# Altium integrated library STMicroelectronics STM32 F4.IntLib: 139 symbols (part 12 of 29)
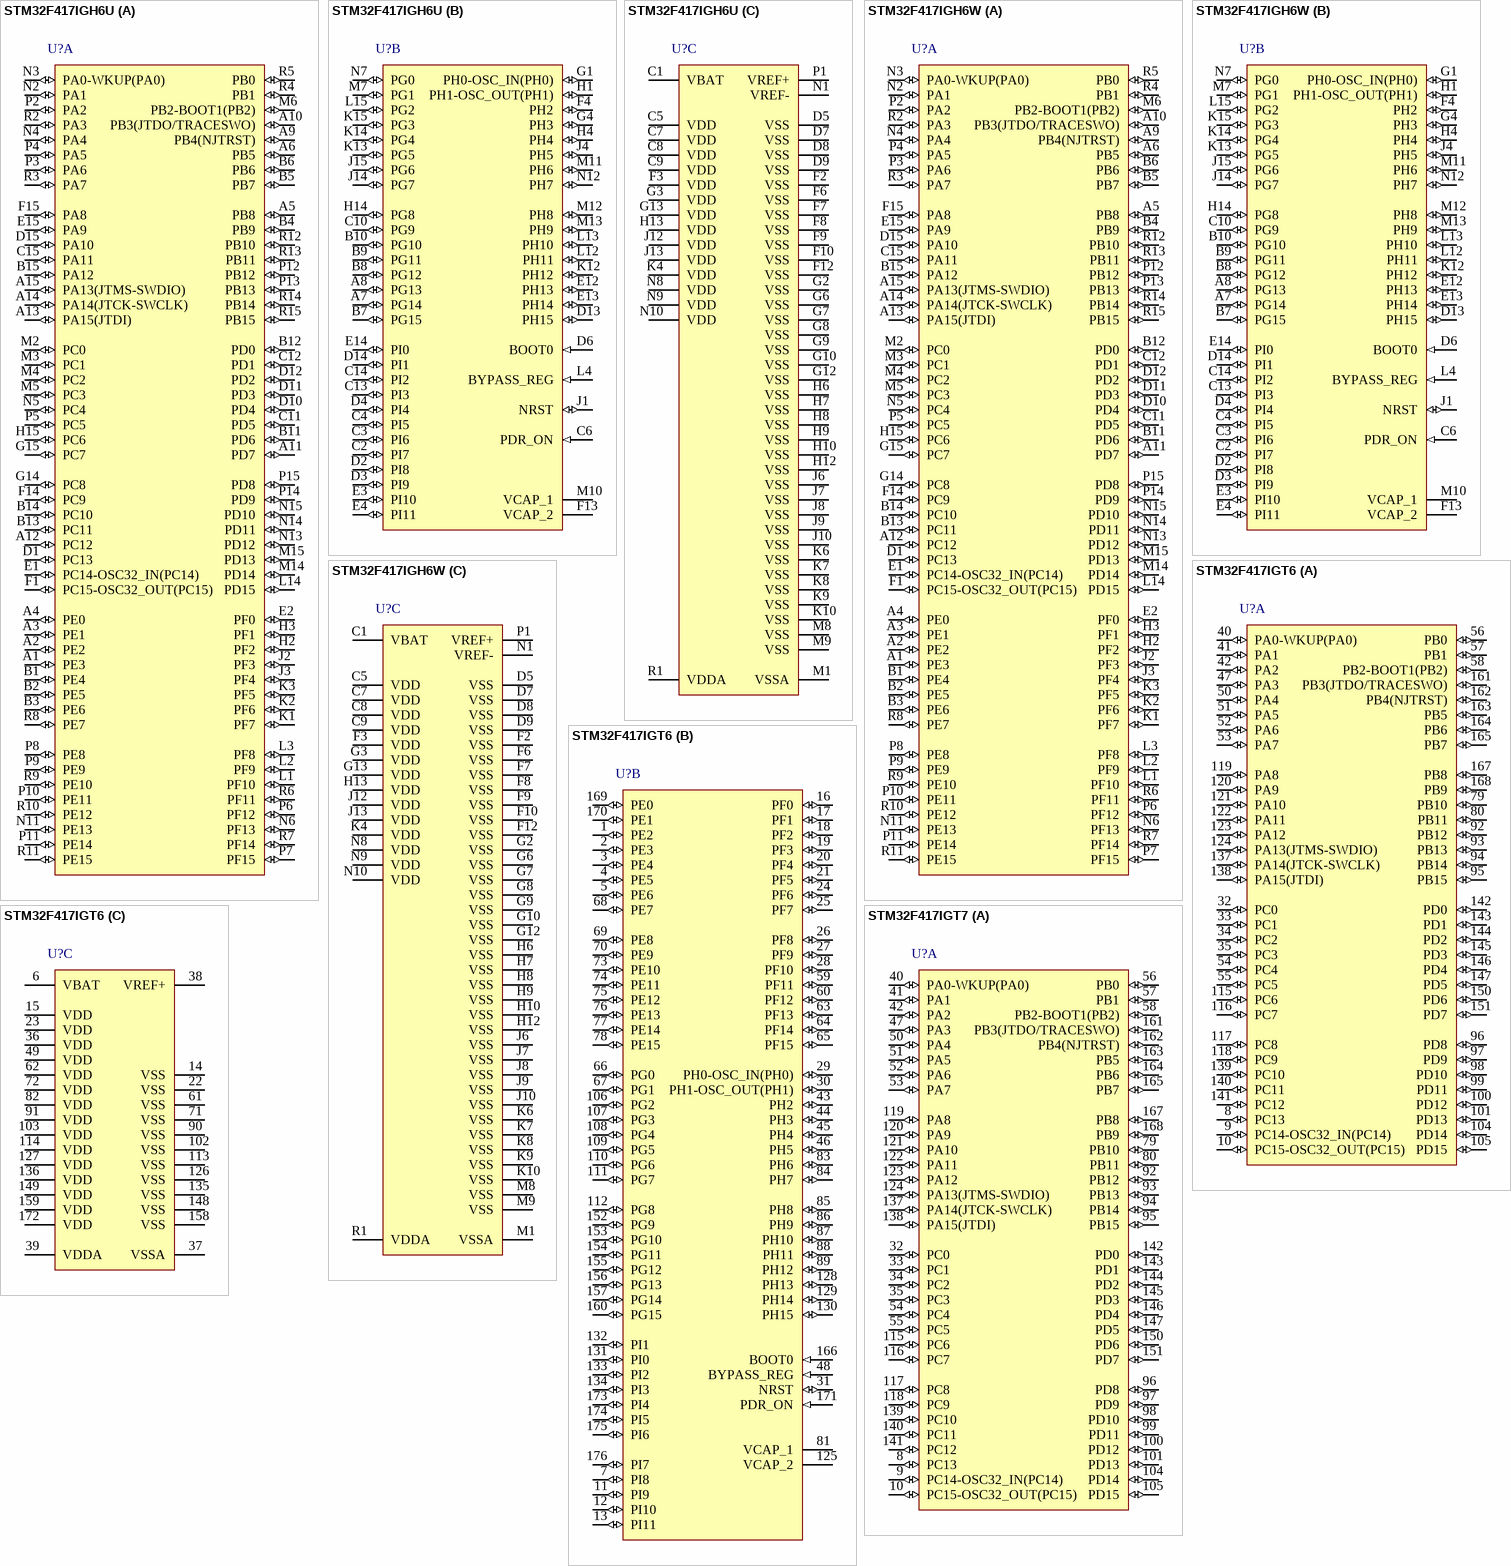
[diagram p50: symbols STM32F417IGH6U to STM32F417IGT7]

## STM32F417IGH6U
designator U?
ARM Cortex-M4 32-bit MCU+FPU, 210 DMIPS, 1024 kB Flash, 192 kB Internal RAM, 140 I/Os, 176-pin BGA, -40 to 85 degC; Manufacturer: STMicroelectronics; PartNumber: STM32F417IGH6U; D/A Converter: 2x12-bit; FLASH Size (Prog) (kB): 1024; I/Os (High Current): 140; Internal RAM Size (kB): 192; Operating Frequency(F) (Processor speed) (MHz): 168; Supply Voltage(Vcc) max (V): 3.6; Supply Voltage(Vcc) min (V): 1.8; DatasheetVersion: Rev. 4; PackageVersion: Rev. 4, 06/2013; PackageReference: UFBGA176+25; PackageDescription: 176+25-Ball Ultra Thin Fine Pitch Ball Grid Array, 10 x 10 x 0.6 mm Body, 0.65 mm Pitch; Supplier 1: Mouser; Supplier Part Number 1: N/A; Core: ARM Cortex-M4; Mounting Technology: Surface Mount; ComponentLink1Description: Manufacturer URL; ComponentLink1URL: http://www.st.com/web/en/home.html; ComponentLink2Description: Datasheet; ComponentLink2URL: http://www.st.com/st-web-ui/static/active/en/resource/technical/document/datasheet/DM00035129.pdf; ComponentLink3Description: Package Specification; ComponentLink3URL: http://www.st.com/st-web-ui/static/active/en/resource/technical/document/datasheet/DM00037051.pdf
footprint STM-UFBGA176+25 (BGA, 201-Balls, Body 10x10mm, Pitch 0.65mm)
part A pins: A1 PE3 (io) "PE3/TRACED0/FSMC_A19/EVENTOUT", A2 PE2 (io) "PE2/TRACECLK/FSMC_A23/ETH_MII_TXD3/EVENTOUT", A3 PE1 (io) "PE1/FSMC_NBL1/DCMI_D3/EVENTOUT", A4 PE0 (io) "PE0/TIM4_ETR/FSMC_NBL0/DCMI_D2/EVENTOUT", A5 PB8 (io) "PB8/TIM4_CH3/SDIO_D4/TIM10_CH1/DCMI_D6/ETH_MII_TXD3/I2C1_SCL/CAN1_RX/EVENTOUT", A6 PB5 (io) "PB5/I2C1_SMBA/CAN2_RX/OTG_HS_ULPI_D7/ETH_PPS_OUT/TIM3_CH2/SPI1_MOSI/SPI3_MOSI/DCMI_D10/I2S3_SD/EVENTOUT", A9 PB4(NJTRST) (io) "PB4(NJTRST)/NJTRST/SPI3_MISO/TIM3_CH1/SPI1_MISO/I2S3ext_SD/EVENTOUT", A10 PB3(JTDO/TRACESWO) (io) "PB3(JTDO/TRACESWO)/JTDO/TRACESWO/SPI3_SCK/I2S3_CK/TIM2_CH2/SPI1_SCK/EVENTOUT", A11 PD7 (io) "PD7/USART2_CK/FSMC_NE1/FSMC_NCE2/EVENTOUT", A12 PC12 (io) "PC12/UART5_TX/SDIO_CK/DCMI_D9/SPI3_MOSI/I2S3_SD/USART3_CK/EVENTOUT", A13 PA15(JTDI) (io) "PA15(JTDI)/JTDI/SPI3_NSS/I2S3_WS/TIM2_CH1_ETR/SPI1_NSS/EVENTOUT", A14 PA14(JTCK-SWCLK) (io) "PA14(JTCK-SWCLK)/JTCK-SWCLK/EVENTOUT", A15 PA13(JTMS-SWDIO) (io) "PA13(JTMS-SWDIO)/JTMS-SWDIO/EVENTOUT", B1 PE4 (io) "PE4/TRACED1/FSMC_A20/DCMI_D4/EVENTOUT", B2 PE5 (io) "PE5/TRACED2/FSMC_A21/TIM9_CH1/DCMI_D6/EVENTOUT", B3 PE6 (io) "PE6/TRACED3/FSMC_A22/TIM9_CH2/DCMI_D7/EVENTOUT", B4 PB9 (io) "PB9/SPI2_NSS/I2S2_WS/TIM4_CH4/TIM11_CH1/SDIO_D5/DCMI_D7/I2C1_SDA/CAN1_TX/EVENTOUT", B5 PB7 (io) "PB7/I2C1_SDA/FSMC_NL/DCMI_VSYNC/USART1_RX/TIM4_CH2/EVENTOUT", B6 PB6 (io) "PB6/I2C1_SCL/TIM4_CH1/CAN2_TX/DCMI_D5/USART1_TX/EVENTOUT", B11 PD6 (io) "PD6/FSMC_NWAIT/USART2_RX/EVENTOUT", B12 PD0 (io) "PD0/FSMC_D2/CAN1_RX/EVENTOUT", B13 PC11 (io) "PC11/UART4_RX/SPI3_MISO/SDIO_D3/DCMI_D4/USART3_RX/I2S3ext_SD/EVENTOUT", B14 PC10 (io) "PC10/SPI3_SCK/I2S3_CK/UART4_TX/SDIO_D2/DCMI_D8/USART3_TX/EVENTOUT", B15 PA12 (io) "PA12/USART1_RTS/CAN1_TX/TIM1_ETR/OTG_FS_DP/EVENTOUT", C11 PD5 (io) "PD5/FSMC_NWE/USART2_TX/EVENTOUT", C12 PD1 (io) "PD1/FSMC_D3/CAN1_TX/EVENTOUT", C15 PA11 (io) "PA11/USART1_CTS/CAN1_RX/TIM1_CH4/OTG_FS_DM/EVENTOUT", D1 PC13 (io) "PC13/EVENTOUT/RTC_OUT,RTC_TAMP1,RTC_TS", D10 PD4 (io) "PD4/FSMC_NOE/USART2_RTS/EVENTOUT", D11 PD3 (io) "PD3/FSMC_CLK/USART2_CTS/EVENTOUT", D12 PD2 (io) "PD2/TIM3_ETR/UART5_RX/SDIO_CMD/DCMI_D11/EVENTOUT", D15 PA10 (io) "PA10/USART1_RX/TIM1_CH3/OTG_FS_ID/DCMI_D1/EVENTOUT", E1 PC14-OSC32_IN(PC14) (io) "PC14-OSC32_IN(PC14)/EVENTOUT/OSC32_IN", E2 PF0 (io) "PF0/FSMC_A0/I2C2_SDA/EVENTOUT", E15 PA9 (io) "PA9/USART1_TX/TIM1_CH2/I2C3_SMBA/DCMI_D0/EVENTOUT/OTG_FS_VBUS", F1 PC15-OSC32_OUT(PC15) (io) "PC15-OSC32_OUT(PC15)/EVENTOUT/OSC32_OUT", F14 PC9 (io) "PC9/I2S_CKIN/MCO2/TIM8_CH4/SDIO_D1/I2C3_SDA/DCMI_D3/TIM3_CH4/EVENTOUT", F15 PA8 (io) "PA8/MCO1/USART1_CK/TIM1_CH1/I2C3_SCL/OTG_FS_SOF/EVENTOUT", G14 PC8 (io) "PC8/TIM8_CH3/SDIO_D0/TIM3_CH3/USART6_CK/DCMI_D2/EVENTOUT", G15 PC7 (io) "PC7/I2S3_MCK/TIM8_CH2/SDIO_D7/USART6_RX/DCMI_D1/TIM3_CH2/EVENTOUT", H2 PF2 (io) "PF2/FSMC_A2/I2C2_SMBA/EVENTOUT", H3 PF1 (io) "PF1/FSMC_A1/I2C2_SCL/EVENTOUT", H15 PC6 (io) "PC6/I2S2_MCK/TIM8_CH1/SDIO_D6/USART6_TX/DCMI_D0/TIM3_CH1/EVENTOUT", J2 PF3 (io) "PF3/FSMC_A3/EVENTOUT/ADC3_IN9", J3 PF4 (io) "PF4/FSMC_A4/EVENTOUT/ADC3_IN14", K1 PF7 (io) "PF7/TIM11_CH1/FSMC_NREG/EVENTOUT/ADC3_IN5", K2 PF6 (io) "PF6/TIM10_CH1/FSMC_NIORD/EVENTOUT/ADC3_IN4", K3 PF5 (io) "PF5/FSMC_A5/EVENTOUT/ADC3_IN15", L1 PF10 (io) "PF10/FSMC_INTR/EVENTOUT/ADC3_IN8", L2 PF9 (io) "PF9/TIM14_CH1/FSMC_CD/EVENTOUT/ADC3_IN7", L3 PF8 (io) "PF8/TIM13_CH1/FSMC_NIOWR/EVENTOUT/ADC3_IN6", L14 PD15 (io) "PD15/FSMC_D1/TIM4_CH4/EVENTOUT", M2 PC0 (io) "PC0/OTG_HS_ULPI_STP/EVENTOUT/ADC123_IN10", M3 PC1 (io) "PC1/ETH_MDC/EVENTOUT/ADC123_IN11", M4 PC2 (io) "PC2/SPI2_MISO/OTG_HS_ULPI_DIR/ETH_MII_TXD2/I2S2ext_SD/EVENTOUT/ADC123_IN12", M5 PC3 (io) "PC3/SPI2_MOSI/I2S2_SD/OTG_HS_ULPI_NXT/ETH_MII_TX_CLK/EVENTOUT/ADC123_IN13", M6 PB2-BOOT1(PB2) (io) "PB2-BOOT1(PB2)/EVENTOUT", M14 PD14 (io) "PD14/FSMC_D0/TIM4_CH3/EVENTOUT", M15 PD13 (io) "PD13/FSMC_A18/TIM4_CH2/EVENTOUT", N2 PA1 (io) "PA1/USART2_RTS/UART4_RX/ETH_RMII_REF_CLK/ETH_MII_RX_CLK/TIM5_CH2/TIM2_CH2/EVENTOUT/ADC123_IN1", N3 PA0-WKUP(PA0) (io) "PA0-WKUP(PA0)/USART2_CTS/UART4_TX/ETH_MII_CRS/TIM2_CH1_ETR/TIM5_CH1/TIM8_ETR/EVENTOUT/ADC123_IN0/WKUP", N4 PA4 (io) "PA4/SPI1_NSS/SPI3_NSS/USART2_CK/DCMI_HSYNC/OTG_HS_SOF/I2S3_WS/EVENTOUT/ADC12_IN4/DAC_OUT1", N5 PC4 (io) "PC4/ETH_RMII_RX_D0/ETH_MII_RX_D0/EVENTOUT/ADC12_IN14", N6 PF13 (io) "PF13/FSMC_A7/EVENTOUT", N11 PE13 (io) "PE13/FSMC_D10/TIM1_CH3/EVENTOUT", N13 PD12 (io) "PD12/FSMC_ALE/FSMC_A17/TIM4_CH1/USART3_RTS/EVENTOUT", N14 PD11 (io) "PD11/FSMC_CLE/FSMC_A16/USART3_CTS/EVENTOUT", N15 PD10 (io) "PD10/FSMC_D15/USART3_CK/EVENTOUT", P2 PA2 (io) "PA2/USART2_TX/TIM5_CH3/TIM9_CH1/TIM2_CH3/ETH_MDIO/EVENTOUT/ADC123_IN2", P3 PA6 (io) "PA6/SPI1_MISO/TIM8_BKIN/TIM13_CH1/DCMI_PIXCLK/TIM3_CH1/TIM1_BKIN/EVENTOUT/ADC12_IN6", P4 PA5 (io) "PA5/SPI1_SCK/OTG_HS_ULPI_CK/TIM2_CH1_ETR/TIM8_CH1N/EVENTOUT/ADC12_IN5/DAC_OUT2", P5 PC5 (io) "PC5/ETH_RMII_RX_D1/ETH_MII_RX_D1/EVENTOUT/ADC12_IN15", P6 PF12 (io) "PF12/FSMC_A6/EVENTOUT", P7 PF15 (io) "PF15/FSMC_A9/EVENTOUT", P8 PE8 (io) "PE8/FSMC_D5/TIM1_CH1N/EVENTOUT", P9 PE9 (io) "PE9/FSMC_D6/TIM1_CH1/EVENTOUT", P10 PE11 (io) "PE11/FSMC_D8/TIM1_CH2/EVENTOUT", P11 PE14 (io) "PE14/FSMC_D11/TIM1_CH4/EVENTOUT", P12 PB12 (io) "PB12/SPI2_NSS/I2S2_WS/I2C2_SMBA/USART3_CK/TIM1_BKIN/CAN2_RX/OTG_HS_ULPI_D5/ETH_RMII_TXD0/ETH_MII_TXD0/OTG_HS_ID/EVENTOUT", P13 PB13 (io) "PB13/SPI2_SCK/I2S2_CK/USART3_CTS/TIM1_CH1N/CAN2_TX/OTG_HS_ULPI_D6/ETH_RMII_TXD1/ETH_MII_TXD1/EVENTOUT/OTG_HS_VBUS", P14 PD9 (io) "PD9/FSMC_D14/USART3_RX/EVENTOUT", P15 PD8 (io) "PD8/FSMC_D13/USART3_TX/EVENTOUT", R2 PA3 (io) "PA3/USART2_RX/TIM5_CH4/TIM9_CH2/TIM2_CH4/OTG_HS_ULPI_D0/ETH_MII_COL/EVENTOUT/ADC123_IN3", R3 PA7 (io) "PA7/SPI1_MOSI/TIM8_CH1N/TIM14_CH1/TIM3_CH2/ETH_MII_RX_DV/TIM1_CH1N/ETH_RMII_CRS_DV/EVENTOUT/ADC12_IN7", R4 PB1 (io) "PB1/TIM3_CH4/TIM8_CH3N/OTG_HS_ULPI_D2/ETH_MII_RXD3/TIM1_CH3N/EVENTOUT/ADC12_IN9", R5 PB0 (io) "PB0/TIM3_CH3/TIM8_CH2N/OTG_HS_ULPI_D1/ETH_MII_RXD2/TIM1_CH2N/EVENTOUT/ADC12_IN8", R6 PF11 (io) "PF11/DCMI_D12/EVENTOUT", R7 PF14 (io) "PF14/FSMC_A8/EVENTOUT", R8 PE7 (io) "PE7/FSMC_D4/TIM1_ETR/EVENTOUT", R9 PE10 (io) "PE10/FSMC_D7/TIM1_CH2N/EVENTOUT", R10 PE12 (io) "PE12/FSMC_D9/TIM1_CH3N/EVENTOUT", R11 PE15 (io) "PE15/FSMC_D12/TIM1_BKIN/EVENTOUT", R12 PB10 (io) "PB10/SPI2_SCK/I2S2_CK/I2C2_SCL/USART3_TX/OTG_HS_ULPI_D3/ETH_MII_RX_ER/TIM2_CH3/EVENTOUT", R13 PB11 (io) "PB11/I2C2_SDA/USART3_RX/OTG_HS_ULPI_D4/ETH_RMII_TX_EN/ETH_MII_TX_EN/TIM2_CH4/EVENTOUT", R14 PB14 (io) "PB14/SPI2_MISO/TIM1_CH2N/TIM12_CH1/OTG_HS_DM/USART3_RTS/TIM8_CH2N/I2S2ext_SD/EVENTOUT", R15 PB15 (io) "PB15/SPI2_MOSI/I2S2_SD/TIM1_CH3N/TIM8_CH3N/TIM12_CH2/OTG_HS_DP/EVENTOUT/RTC_REFIN"
part B pins: A7 PG14 (io) "PG14/FSMC_A25/USART6_TX/ETH_MII_TXD1/ETH_RMII_TXD1/EVENTOUT", A8 PG13 (io) "PG13/FSMC_A24/USART6_CTS/ETH_MII_TXD0/ETH_RMII_TXD0/EVENTOUT", B7 PG15 (io) "PG15/USART6_CTS/DCMI_D13/EVENTOUT", B8 PG12 (io) "PG12/FSMC_NE4/USART6_RTS/EVENTOUT", B9 PG11 (io) "PG11/FSMC_NCE4_2/ETH_MII_TX_EN/ETH_RMII_TX_EN/EVENTOUT", B10 PG10 (io) "PG10/FSMC_NCE4_1/FSMC_NE3/EVENTOUT", C2 PI7 (io) "PI7/TIM8_CH3/DCMI_D7/EVENTOUT", C3 PI6 (io) "PI6/TIM8_CH2/DCMI_D6/EVENTOUT", C4 PI5 (io) "PI5/TIM8_CH1/DCMI_VSYNC/EVENTOUT", C6 PDR_ON (in), C10 PG9 (io) "PG9/USART6_RX/FSMC_NE2/FSMC_NCE3/EVENTOUT", C13 PI3 (io) "PI3/TIM8_ETR/SPI2_MOSI/I2S2_SD/DCMI_D10/EVENTOUT", C14 PI2 (io) "PI2/TIM8_CH4/SPI2_MISO/DCMI_D9/I2S2ext_SD/EVENTOUT", D2 PI8 (io) "PI8/EVENTOUT/RTC_TAMP1,RTC_TAMP2,RTC_TS", D3 PI9 (io) "PI9/CAN1_RX/EVENTOUT", D4 PI4 (io) "PI4/TIM8_BKIN/DCMI_D5/EVENTOUT", D6 BOOT0 (in) "BOOT0/VPP", D13 PH15 (io) "PH15/TIM8_CH3N/DCMI_D11/EVENTOUT", D14 PI1 (io) "PI1/SPI2_SCK/I2S2_CK/DCMI_D8/EVENTOUT", E3 PI10 (io) "PI10/ETH_MII_RX_ER/EVENTOUT", E4 PI11 (io) "PI11/OTG_HS_ULPI_DIR/EVENTOUT", E12 PH13 (io) "PH13/TIM8_CH1N/CAN1_TX/EVENTOUT", E13 PH14 (io) "PH14/TIM8_CH2N/DCMI_D4/EVENTOUT", E14 PI0 (io) "PI0/TIM5_CH4/SPI2_NSS/I2S2_WS/DCMI_D13/EVENTOUT", F4 PH2 (io) "PH2/ETH_MII_CRS/EVENTOUT", F13 VCAP_2 (power), G1 PH0-OSC_IN(PH0) (io) "PH0-OSC_IN(PH0)/EVENTOUT/OSC_IN", G4 PH3 (io) "PH3/ETH_MII_COL/EVENTOUT", H1 PH1-OSC_OUT(PH1) (io) "PH1-OSC_OUT(PH1)/EVENTOUT/OSC_OUT", H4 PH4 (io) "PH4/I2C2_SCL/OTG_HS_ULPI_NXT/EVENTOUT", H14 PG8 (io) "PG8/USART6_RTS/ETH_PPS_OUT/EVENTOUT", J1 NRST (io), J4 PH5 (io) "PH5/I2C2_SDA/EVENTOUT", J14 PG7 (io) "PG7/FSMC_INT3/USART6_CK/EVENTOUT", J15 PG6 (io) "PG6/FSMC_INT2/EVENTOUT", K12 PH12 (io) "PH12/TIM5_CH3/DCMI_D3/EVENTOUT", K13 PG5 (io) "PG5/FSMC_A15/EVENTOUT", K14 PG4 (io) "PG4/FSMC_A14/EVENTOUT", K15 PG3 (io) "PG3/FSMC_A13/EVENTOUT", L4 BYPASS_REG (in), L12 PH11 (io) "PH11/TIM5_CH2/DCMI_D2/EVENTOUT", L13 PH10 (io) "PH10/TIM5_CH1/DCMI_D1/EVENTOUT", L15 PG2 (io) "PG2/FSMC_A12/EVENTOUT", M7 PG1 (io) "PG1/FSMC_A11/EVENTOUT", M10 VCAP_1 (power), M11 PH6 (io) "PH6/I2C2_SMBA/TIM12_CH1/ETH_MII_RXD2/EVENTOUT", M12 PH8 (io) "PH8/I2C3_SDA/DCMI_HSYNC/EVENTOUT", M13 PH9 (io) "PH9/I2C3_SMBA/TIM12_CH2/DCMI_D0/EVENTOUT", N7 PG0 (io) "PG0/FSMC_A10/EVENTOUT", N12 PH7 (io) "PH7/I2C3_SCL/ETH_MII_RXD3/EVENTOUT"
part C pins: C1 VBAT (power), C5 VDD (power), C7 VDD (power), C8 VDD (power), C9 VDD (power), D5 VSS (power), D7 VSS (power), D8 VSS (power), D9 VSS (power), F2 VSS (power), F3 VDD (power), F6 VSS (power), F7 VSS (power), F8 VSS (power), F9 VSS (power), F10 VSS (power), F12 VSS (power), G2 VSS (power), G3 VDD (power), G6 VSS (power), G7 VSS (power), G8 VSS (power), G9 VSS (power), G10 VSS (power), G12 VSS (power), G13 VDD (power), H6 VSS (power), H7 VSS (power), H8 VSS (power), H9 VSS (power), H10 VSS (power), H12 VSS (power), H13 VDD (power), J6 VSS (power), J7 VSS (power), J8 VSS (power), J9 VSS (power), J10 VSS (power), J12 VDD (power), J13 VDD (power), K4 VDD (power), K6 VSS (power), K7 VSS (power), K8 VSS (power), K9 VSS (power), K10 VSS (power), M1 VSSA (power), M8 VSS (power), M9 VSS (power), N1 VREF- (power), N8 VDD (power), N9 VDD (power), N10 VDD (power), P1 VREF+ (power), R1 VDDA (power)

## STM32F417IGH6W
designator U?
ARM Cortex-M4 32-bit MCU+FPU, 210 DMIPS, 1024 kB Flash, 192 kB Internal RAM, 140 I/Os, 176-pin UFBGA, -40 to 85 degC, Tray; Manufacturer: STMicroelectronics; PartNumber: STM32F417IGH6W; D/A Converter: 2x12-bit; FLASH Size (Prog) (kB): 1024; I/Os (High Current): 140; Internal RAM Size (kB): 192; Operating Frequency(F) (Processor speed) (MHz): 168; Supply Voltage(Vcc) max (V): 3.6; Supply Voltage(Vcc) min (V): 1.8; DatasheetVersion: Rev. 4; PackageVersion: Rev. 4, 06/2013; PackageReference: UFBGA176+25; PackageDescription: 176+25-Ball Ultra Thin Fine Pitch Ball Grid Array, 10 x 10 x 0.6 mm Body, 0.65 mm Pitch; Supplier 1: Mouser; Supplier Part Number 1: N/A; Core: ARM Cortex-M4; Packing: Tray; Mounting Technology: Surface Mount; ComponentLink1Description: Manufacturer URL; ComponentLink1URL: http://www.st.com/web/en/home.html; ComponentLink2Description: Datasheet; ComponentLink2URL: http://www.st.com/st-web-ui/static/active/en/resource/technical/document/datasheet/DM00035129.pdf; ComponentLink3Description: Package Specification; ComponentLink3URL: http://www.st.com/st-web-ui/static/active/en/resource/technical/document/datasheet/DM00037051.pdf
footprint STM-UFBGA176+25 (BGA, 201-Balls, Body 10x10mm, Pitch 0.65mm)
part A pins: A1 PE3 (io) "PE3/TRACED0/FSMC_A19/EVENTOUT", A2 PE2 (io) "PE2/TRACECLK/FSMC_A23/ETH_MII_TXD3/EVENTOUT", A3 PE1 (io) "PE1/FSMC_NBL1/DCMI_D3/EVENTOUT", A4 PE0 (io) "PE0/TIM4_ETR/FSMC_NBL0/DCMI_D2/EVENTOUT", A5 PB8 (io) "PB8/TIM4_CH3/SDIO_D4/TIM10_CH1/DCMI_D6/ETH_MII_TXD3/I2C1_SCL/CAN1_RX/EVENTOUT", A6 PB5 (io) "PB5/I2C1_SMBA/CAN2_RX/OTG_HS_ULPI_D7/ETH_PPS_OUT/TIM3_CH2/SPI1_MOSI/SPI3_MOSI/DCMI_D10/I2S3_SD/EVENTOUT", A9 PB4(NJTRST) (io) "PB4(NJTRST)/NJTRST/SPI3_MISO/TIM3_CH1/SPI1_MISO/I2S3ext_SD/EVENTOUT", A10 PB3(JTDO/TRACESWO) (io) "PB3(JTDO/TRACESWO)/JTDO/TRACESWO/SPI3_SCK/I2S3_CK/TIM2_CH2/SPI1_SCK/EVENTOUT", A11 PD7 (io) "PD7/USART2_CK/FSMC_NE1/FSMC_NCE2/EVENTOUT", A12 PC12 (io) "PC12/UART5_TX/SDIO_CK/DCMI_D9/SPI3_MOSI/I2S3_SD/USART3_CK/EVENTOUT", A13 PA15(JTDI) (io) "PA15(JTDI)/JTDI/SPI3_NSS/I2S3_WS/TIM2_CH1_ETR/SPI1_NSS/EVENTOUT", A14 PA14(JTCK-SWCLK) (io) "PA14(JTCK-SWCLK)/JTCK-SWCLK/EVENTOUT", A15 PA13(JTMS-SWDIO) (io) "PA13(JTMS-SWDIO)/JTMS-SWDIO/EVENTOUT", B1 PE4 (io) "PE4/TRACED1/FSMC_A20/DCMI_D4/EVENTOUT", B2 PE5 (io) "PE5/TRACED2/FSMC_A21/TIM9_CH1/DCMI_D6/EVENTOUT", B3 PE6 (io) "PE6/TRACED3/FSMC_A22/TIM9_CH2/DCMI_D7/EVENTOUT", B4 PB9 (io) "PB9/SPI2_NSS/I2S2_WS/TIM4_CH4/TIM11_CH1/SDIO_D5/DCMI_D7/I2C1_SDA/CAN1_TX/EVENTOUT", B5 PB7 (io) "PB7/I2C1_SDA/FSMC_NL/DCMI_VSYNC/USART1_RX/TIM4_CH2/EVENTOUT", B6 PB6 (io) "PB6/I2C1_SCL/TIM4_CH1/CAN2_TX/DCMI_D5/USART1_TX/EVENTOUT", B11 PD6 (io) "PD6/FSMC_NWAIT/USART2_RX/EVENTOUT", B12 PD0 (io) "PD0/FSMC_D2/CAN1_RX/EVENTOUT", B13 PC11 (io) "PC11/UART4_RX/SPI3_MISO/SDIO_D3/DCMI_D4/USART3_RX/I2S3ext_SD/EVENTOUT", B14 PC10 (io) "PC10/SPI3_SCK/I2S3_CK/UART4_TX/SDIO_D2/DCMI_D8/USART3_TX/EVENTOUT", B15 PA12 (io) "PA12/USART1_RTS/CAN1_TX/TIM1_ETR/OTG_FS_DP/EVENTOUT", C11 PD5 (io) "PD5/FSMC_NWE/USART2_TX/EVENTOUT", C12 PD1 (io) "PD1/FSMC_D3/CAN1_TX/EVENTOUT", C15 PA11 (io) "PA11/USART1_CTS/CAN1_RX/TIM1_CH4/OTG_FS_DM/EVENTOUT", D1 PC13 (io) "PC13/EVENTOUT/RTC_OUT,RTC_TAMP1,RTC_TS", D10 PD4 (io) "PD4/FSMC_NOE/USART2_RTS/EVENTOUT", D11 PD3 (io) "PD3/FSMC_CLK/USART2_CTS/EVENTOUT", D12 PD2 (io) "PD2/TIM3_ETR/UART5_RX/SDIO_CMD/DCMI_D11/EVENTOUT", D15 PA10 (io) "PA10/USART1_RX/TIM1_CH3/OTG_FS_ID/DCMI_D1/EVENTOUT", E1 PC14-OSC32_IN(PC14) (io) "PC14-OSC32_IN(PC14)/EVENTOUT/OSC32_IN", E2 PF0 (io) "PF0/FSMC_A0/I2C2_SDA/EVENTOUT", E15 PA9 (io) "PA9/USART1_TX/TIM1_CH2/I2C3_SMBA/DCMI_D0/EVENTOUT/OTG_FS_VBUS", F1 PC15-OSC32_OUT(PC15) (io) "PC15-OSC32_OUT(PC15)/EVENTOUT/OSC32_OUT", F14 PC9 (io) "PC9/I2S_CKIN/MCO2/TIM8_CH4/SDIO_D1/I2C3_SDA/DCMI_D3/TIM3_CH4/EVENTOUT", F15 PA8 (io) "PA8/MCO1/USART1_CK/TIM1_CH1/I2C3_SCL/OTG_FS_SOF/EVENTOUT", G14 PC8 (io) "PC8/TIM8_CH3/SDIO_D0/TIM3_CH3/USART6_CK/DCMI_D2/EVENTOUT", G15 PC7 (io) "PC7/I2S3_MCK/TIM8_CH2/SDIO_D7/USART6_RX/DCMI_D1/TIM3_CH2/EVENTOUT", H2 PF2 (io) "PF2/FSMC_A2/I2C2_SMBA/EVENTOUT", H3 PF1 (io) "PF1/FSMC_A1/I2C2_SCL/EVENTOUT", H15 PC6 (io) "PC6/I2S2_MCK/TIM8_CH1/SDIO_D6/USART6_TX/DCMI_D0/TIM3_CH1/EVENTOUT", J2 PF3 (io) "PF3/FSMC_A3/EVENTOUT/ADC3_IN9", J3 PF4 (io) "PF4/FSMC_A4/EVENTOUT/ADC3_IN14", K1 PF7 (io) "PF7/TIM11_CH1/FSMC_NREG/EVENTOUT/ADC3_IN5", K2 PF6 (io) "PF6/TIM10_CH1/FSMC_NIORD/EVENTOUT/ADC3_IN4", K3 PF5 (io) "PF5/FSMC_A5/EVENTOUT/ADC3_IN15", L1 PF10 (io) "PF10/FSMC_INTR/EVENTOUT/ADC3_IN8", L2 PF9 (io) "PF9/TIM14_CH1/FSMC_CD/EVENTOUT/ADC3_IN7", L3 PF8 (io) "PF8/TIM13_CH1/FSMC_NIOWR/EVENTOUT/ADC3_IN6", L14 PD15 (io) "PD15/FSMC_D1/TIM4_CH4/EVENTOUT", M2 PC0 (io) "PC0/OTG_HS_ULPI_STP/EVENTOUT/ADC123_IN10", M3 PC1 (io) "PC1/ETH_MDC/EVENTOUT/ADC123_IN11", M4 PC2 (io) "PC2/SPI2_MISO/OTG_HS_ULPI_DIR/ETH_MII_TXD2/I2S2ext_SD/EVENTOUT/ADC123_IN12", M5 PC3 (io) "PC3/SPI2_MOSI/I2S2_SD/OTG_HS_ULPI_NXT/ETH_MII_TX_CLK/EVENTOUT/ADC123_IN13", M6 PB2-BOOT1(PB2) (io) "PB2-BOOT1(PB2)/EVENTOUT", M14 PD14 (io) "PD14/FSMC_D0/TIM4_CH3/EVENTOUT", M15 PD13 (io) "PD13/FSMC_A18/TIM4_CH2/EVENTOUT", N2 PA1 (io) "PA1/USART2_RTS/UART4_RX/ETH_RMII_REF_CLK/ETH_MII_RX_CLK/TIM5_CH2/TIM2_CH2/EVENTOUT/ADC123_IN1", N3 PA0-WKUP(PA0) (io) "PA0-WKUP(PA0)/USART2_CTS/UART4_TX/ETH_MII_CRS/TIM2_CH1_ETR/TIM5_CH1/TIM8_ETR/EVENTOUT/ADC123_IN0/WKUP", N4 PA4 (io) "PA4/SPI1_NSS/SPI3_NSS/USART2_CK/DCMI_HSYNC/OTG_HS_SOF/I2S3_WS/EVENTOUT/ADC12_IN4/DAC_OUT1", N5 PC4 (io) "PC4/ETH_RMII_RX_D0/ETH_MII_RX_D0/EVENTOUT/ADC12_IN14", N6 PF13 (io) "PF13/FSMC_A7/EVENTOUT", N11 PE13 (io) "PE13/FSMC_D10/TIM1_CH3/EVENTOUT", N13 PD12 (io) "PD12/FSMC_ALE/FSMC_A17/TIM4_CH1/USART3_RTS/EVENTOUT", N14 PD11 (io) "PD11/FSMC_CLE/FSMC_A16/USART3_CTS/EVENTOUT", N15 PD10 (io) "PD10/FSMC_D15/USART3_CK/EVENTOUT", P2 PA2 (io) "PA2/USART2_TX/TIM5_CH3/TIM9_CH1/TIM2_CH3/ETH_MDIO/EVENTOUT/ADC123_IN2", P3 PA6 (io) "PA6/SPI1_MISO/TIM8_BKIN/TIM13_CH1/DCMI_PIXCLK/TIM3_CH1/TIM1_BKIN/EVENTOUT/ADC12_IN6", P4 PA5 (io) "PA5/SPI1_SCK/OTG_HS_ULPI_CK/TIM2_CH1_ETR/TIM8_CH1N/EVENTOUT/ADC12_IN5/DAC_OUT2", P5 PC5 (io) "PC5/ETH_RMII_RX_D1/ETH_MII_RX_D1/EVENTOUT/ADC12_IN15", P6 PF12 (io) "PF12/FSMC_A6/EVENTOUT", P7 PF15 (io) "PF15/FSMC_A9/EVENTOUT", P8 PE8 (io) "PE8/FSMC_D5/TIM1_CH1N/EVENTOUT", P9 PE9 (io) "PE9/FSMC_D6/TIM1_CH1/EVENTOUT", P10 PE11 (io) "PE11/FSMC_D8/TIM1_CH2/EVENTOUT", P11 PE14 (io) "PE14/FSMC_D11/TIM1_CH4/EVENTOUT", P12 PB12 (io) "PB12/SPI2_NSS/I2S2_WS/I2C2_SMBA/USART3_CK/TIM1_BKIN/CAN2_RX/OTG_HS_ULPI_D5/ETH_RMII_TXD0/ETH_MII_TXD0/OTG_HS_ID/EVENTOUT", P13 PB13 (io) "PB13/SPI2_SCK/I2S2_CK/USART3_CTS/TIM1_CH1N/CAN2_TX/OTG_HS_ULPI_D6/ETH_RMII_TXD1/ETH_MII_TXD1/EVENTOUT/OTG_HS_VBUS", P14 PD9 (io) "PD9/FSMC_D14/USART3_RX/EVENTOUT", P15 PD8 (io) "PD8/FSMC_D13/USART3_TX/EVENTOUT", R2 PA3 (io) "PA3/USART2_RX/TIM5_CH4/TIM9_CH2/TIM2_CH4/OTG_HS_ULPI_D0/ETH_MII_COL/EVENTOUT/ADC123_IN3", R3 PA7 (io) "PA7/SPI1_MOSI/TIM8_CH1N/TIM14_CH1/TIM3_CH2/ETH_MII_RX_DV/TIM1_CH1N/ETH_RMII_CRS_DV/EVENTOUT/ADC12_IN7", R4 PB1 (io) "PB1/TIM3_CH4/TIM8_CH3N/OTG_HS_ULPI_D2/ETH_MII_RXD3/TIM1_CH3N/EVENTOUT/ADC12_IN9", R5 PB0 (io) "PB0/TIM3_CH3/TIM8_CH2N/OTG_HS_ULPI_D1/ETH_MII_RXD2/TIM1_CH2N/EVENTOUT/ADC12_IN8", R6 PF11 (io) "PF11/DCMI_D12/EVENTOUT", R7 PF14 (io) "PF14/FSMC_A8/EVENTOUT", R8 PE7 (io) "PE7/FSMC_D4/TIM1_ETR/EVENTOUT", R9 PE10 (io) "PE10/FSMC_D7/TIM1_CH2N/EVENTOUT", R10 PE12 (io) "PE12/FSMC_D9/TIM1_CH3N/EVENTOUT", R11 PE15 (io) "PE15/FSMC_D12/TIM1_BKIN/EVENTOUT", R12 PB10 (io) "PB10/SPI2_SCK/I2S2_CK/I2C2_SCL/USART3_TX/OTG_HS_ULPI_D3/ETH_MII_RX_ER/TIM2_CH3/EVENTOUT", R13 PB11 (io) "PB11/I2C2_SDA/USART3_RX/OTG_HS_ULPI_D4/ETH_RMII_TX_EN/ETH_MII_TX_EN/TIM2_CH4/EVENTOUT", R14 PB14 (io) "PB14/SPI2_MISO/TIM1_CH2N/TIM12_CH1/OTG_HS_DM/USART3_RTS/TIM8_CH2N/I2S2ext_SD/EVENTOUT", R15 PB15 (io) "PB15/SPI2_MOSI/I2S2_SD/TIM1_CH3N/TIM8_CH3N/TIM12_CH2/OTG_HS_DP/EVENTOUT/RTC_REFIN"
part B pins: A7 PG14 (io) "PG14/FSMC_A25/USART6_TX/ETH_MII_TXD1/ETH_RMII_TXD1/EVENTOUT", A8 PG13 (io) "PG13/FSMC_A24/USART6_CTS/ETH_MII_TXD0/ETH_RMII_TXD0/EVENTOUT", B7 PG15 (io) "PG15/USART6_CTS/DCMI_D13/EVENTOUT", B8 PG12 (io) "PG12/FSMC_NE4/USART6_RTS/EVENTOUT", B9 PG11 (io) "PG11/FSMC_NCE4_2/ETH_MII_TX_EN/ETH_RMII_TX_EN/EVENTOUT", B10 PG10 (io) "PG10/FSMC_NCE4_1/FSMC_NE3/EVENTOUT", C2 PI7 (io) "PI7/TIM8_CH3/DCMI_D7/EVENTOUT", C3 PI6 (io) "PI6/TIM8_CH2/DCMI_D6/EVENTOUT", C4 PI5 (io) "PI5/TIM8_CH1/DCMI_VSYNC/EVENTOUT", C6 PDR_ON (in), C10 PG9 (io) "PG9/USART6_RX/FSMC_NE2/FSMC_NCE3/EVENTOUT", C13 PI3 (io) "PI3/TIM8_ETR/SPI2_MOSI/I2S2_SD/DCMI_D10/EVENTOUT", C14 PI2 (io) "PI2/TIM8_CH4/SPI2_MISO/DCMI_D9/I2S2ext_SD/EVENTOUT", D2 PI8 (io) "PI8/EVENTOUT/RTC_TAMP1,RTC_TAMP2,RTC_TS", D3 PI9 (io) "PI9/CAN1_RX/EVENTOUT", D4 PI4 (io) "PI4/TIM8_BKIN/DCMI_D5/EVENTOUT", D6 BOOT0 (in) "BOOT0/VPP", D13 PH15 (io) "PH15/TIM8_CH3N/DCMI_D11/EVENTOUT", D14 PI1 (io) "PI1/SPI2_SCK/I2S2_CK/DCMI_D8/EVENTOUT", E3 PI10 (io) "PI10/ETH_MII_RX_ER/EVENTOUT", E4 PI11 (io) "PI11/OTG_HS_ULPI_DIR/EVENTOUT", E12 PH13 (io) "PH13/TIM8_CH1N/CAN1_TX/EVENTOUT", E13 PH14 (io) "PH14/TIM8_CH2N/DCMI_D4/EVENTOUT", E14 PI0 (io) "PI0/TIM5_CH4/SPI2_NSS/I2S2_WS/DCMI_D13/EVENTOUT", F4 PH2 (io) "PH2/ETH_MII_CRS/EVENTOUT", F13 VCAP_2 (power), G1 PH0-OSC_IN(PH0) (io) "PH0-OSC_IN(PH0)/EVENTOUT/OSC_IN", G4 PH3 (io) "PH3/ETH_MII_COL/EVENTOUT", H1 PH1-OSC_OUT(PH1) (io) "PH1-OSC_OUT(PH1)/EVENTOUT/OSC_OUT", H4 PH4 (io) "PH4/I2C2_SCL/OTG_HS_ULPI_NXT/EVENTOUT", H14 PG8 (io) "PG8/USART6_RTS/ETH_PPS_OUT/EVENTOUT", J1 NRST (io), J4 PH5 (io) "PH5/I2C2_SDA/EVENTOUT", J14 PG7 (io) "PG7/FSMC_INT3/USART6_CK/EVENTOUT", J15 PG6 (io) "PG6/FSMC_INT2/EVENTOUT", K12 PH12 (io) "PH12/TIM5_CH3/DCMI_D3/EVENTOUT", K13 PG5 (io) "PG5/FSMC_A15/EVENTOUT", K14 PG4 (io) "PG4/FSMC_A14/EVENTOUT", K15 PG3 (io) "PG3/FSMC_A13/EVENTOUT", L4 BYPASS_REG (in), L12 PH11 (io) "PH11/TIM5_CH2/DCMI_D2/EVENTOUT", L13 PH10 (io) "PH10/TIM5_CH1/DCMI_D1/EVENTOUT", L15 PG2 (io) "PG2/FSMC_A12/EVENTOUT", M7 PG1 (io) "PG1/FSMC_A11/EVENTOUT", M10 VCAP_1 (power), M11 PH6 (io) "PH6/I2C2_SMBA/TIM12_CH1/ETH_MII_RXD2/EVENTOUT", M12 PH8 (io) "PH8/I2C3_SDA/DCMI_HSYNC/EVENTOUT", M13 PH9 (io) "PH9/I2C3_SMBA/TIM12_CH2/DCMI_D0/EVENTOUT", N7 PG0 (io) "PG0/FSMC_A10/EVENTOUT", N12 PH7 (io) "PH7/I2C3_SCL/ETH_MII_RXD3/EVENTOUT"
part C pins: C1 VBAT (power), C5 VDD (power), C7 VDD (power), C8 VDD (power), C9 VDD (power), D5 VSS (power), D7 VSS (power), D8 VSS (power), D9 VSS (power), F2 VSS (power), F3 VDD (power), F6 VSS (power), F7 VSS (power), F8 VSS (power), F9 VSS (power), F10 VSS (power), F12 VSS (power), G2 VSS (power), G3 VDD (power), G6 VSS (power), G7 VSS (power), G8 VSS (power), G9 VSS (power), G10 VSS (power), G12 VSS (power), G13 VDD (power), H6 VSS (power), H7 VSS (power), H8 VSS (power), H9 VSS (power), H10 VSS (power), H12 VSS (power), H13 VDD (power), J6 VSS (power), J7 VSS (power), J8 VSS (power), J9 VSS (power), J10 VSS (power), J12 VDD (power), J13 VDD (power), K4 VDD (power), K6 VSS (power), K7 VSS (power), K8 VSS (power), K9 VSS (power), K10 VSS (power), M1 VSSA (power), M8 VSS (power), M9 VSS (power), N1 VREF- (power), N8 VDD (power), N9 VDD (power), N10 VDD (power), P1 VREF+ (power), R1 VDDA (power)

## STM32F417IGT6
designator U?
ARM Cortex-M4 32-bit MCU+FPU, 210 DMIPS, 1024 kB Flash, 192 kB Internal RAM, 140 I/Os, 176-pin LQFP, -40 to 85 degC, Tray; Manufacturer: STMicroelectronics; PartNumber: STM32F417IGT6; D/A Converter: 2x12-bit; FLASH Size (Prog) (kB): 1024; I/Os (High Current): 140; Internal RAM Size (kB): 192; Operating Frequency(F) (Processor speed) (MHz): 168; Supply Voltage(Vcc) max (V): 3.6; Supply Voltage(Vcc) min (V): 1.8; DatasheetVersion: Rev. 4; PackageVersion: Rev. 4, 06/2013; PackageReference: LQFP176; PackageDescription: 176-Pin Low Profile Quad Flat Package, 24 x 24 mm Body, 0.5 mm Pitch; Supplier 1: Digi-Key; Supplier Part Number 1: 497-11912-ND; Supplier 2: Farnell; Supplier Part Number 2: 2064372; Supplier 3: Farnell; Supplier Part Number 3: 2144939; Supplier 4: Newark; Supplier Part Number 4: 73T2337; Supplier 5: Mouser; Supplier Part Number 5: 511-STM32F417IGT6; Core: ARM Cortex-M4; Packing: Tray; Mounting Technology: Surface Mount; ComponentLink1Description: Manufacturer URL; ComponentLink1URL: http://www.st.com/web/en/home.html; ComponentLink2Description: Datasheet; ComponentLink2URL: http://www.st.com/st-web-ui/static/active/en/resource/technical/document/datasheet/DM00035129.pdf; ComponentLink3Description: Package Specification; ComponentLink3URL: http://www.st.com/st-web-ui/static/active/en/resource/technical/document/datasheet/DM00035129.pdf
footprint STM-LQFP176_N (Thin QFP, 176-Leads, Body 24x24mm, Pitch 0.5mm, IPC Medium Density)
footprint STM-LQFP176_L (Thin QFP, 176-Leads, Body 24x24mm, Pitch 0.5mm, IPC High Density)
footprint STM-LQFP176_M (Thin QFP, 176-Leads, Body 24x24mm, Pitch 0.5mm, IPC Low Density)
part A pins: 8 PC13 (io) "PC13/EVENTOUT/RTC_OUT,RTC_TAMP1,RTC_TS", 9 PC14-OSC32_IN(PC14) (io) "PC14-OSC32_IN(PC14)/EVENTOUT/OSC32_IN", 10 PC15-OSC32_OUT(PC15) (io) "PC15-OSC32_OUT(PC15)/EVENTOUT/OSC32_OUT", 32 PC0 (io) "PC0/OTG_HS_ULPI_STP/EVENTOUT/ADC123_IN10", 33 PC1 (io) "PC1/ETH_MDC/EVENTOUT/ADC123_IN11", 34 PC2 (io) "PC2/SPI2_MISO/OTG_HS_ULPI_DIR/ETH_MII_TXD2/I2S2ext_SD/EVENTOUT/ADC123_IN12", 35 PC3 (io) "PC3/SPI2_MOSI/I2S2_SD/OTG_HS_ULPI_NXT/ETH_MII_TX_CLK/EVENTOUT/ADC123_IN13", 40 PA0-WKUP(PA0) (io) "PA0-WKUP(PA0)/USART2_CTS/UART4_TX/ETH_MII_CRS/TIM2_CH1_ETR/TIM5_CH1/TIM8_ETR/EVENTOUT/ADC123_IN0/WKUP", 41 PA1 (io) "PA1/USART2_RTS/UART4_RX/ETH_RMII_REF_CLK/ETH_MII_RX_CLK/TIM5_CH2/TIM2_CH2/EVENTOUT/ADC123_IN1", 42 PA2 (io) "PA2/USART2_TX/TIM5_CH3/TIM9_CH1/TIM2_CH3/ETH_MDIO/EVENTOUT/ADC123_IN2", 47 PA3 (io) "PA3/USART2_RX/TIM5_CH4/TIM9_CH2/TIM2_CH4/OTG_HS_ULPI_D0/ETH_MII_COL/EVENTOUT/ADC123_IN3", 50 PA4 (io) "PA4/SPI1_NSS/SPI3_NSS/USART2_CK/DCMI_HSYNC/OTG_HS_SOF/I2S3_WS/EVENTOUT/ADC12_IN4/DAC_OUT1", 51 PA5 (io) "PA5/SPI1_SCK/OTG_HS_ULPI_CK/TIM2_CH1_ETR/TIM8_CH1N/EVENTOUT/ADC12_IN5/DAC_OUT2", 52 PA6 (io) "PA6/SPI1_MISO/TIM8_BKIN/TIM13_CH1/DCMI_PIXCLK/TIM3_CH1/TIM1_BKIN/EVENTOUT/ADC12_IN6", 53 PA7 (io) "PA7/SPI1_MOSI/TIM8_CH1N/TIM14_CH1/TIM3_CH2/ETH_MII_RX_DV/TIM1_CH1N/ETH_RMII_CRS_DV/EVENTOUT/ADC12_IN7", 54 PC4 (io) "PC4/ETH_RMII_RX_D0/ETH_MII_RX_D0/EVENTOUT/ADC12_IN14", 55 PC5 (io) "PC5/ETH_RMII_RX_D1/ETH_MII_RX_D1/EVENTOUT/ADC12_IN15", 56 PB0 (io) "PB0/TIM3_CH3/TIM8_CH2N/OTG_HS_ULPI_D1/ETH_MII_RXD2/TIM1_CH2N/EVENTOUT/ADC12_IN8", 57 PB1 (io) "PB1/TIM3_CH4/TIM8_CH3N/OTG_HS_ULPI_D2/ETH_MII_RXD3/TIM1_CH3N/EVENTOUT/ADC12_IN9", 58 PB2-BOOT1(PB2) (io) "PB2-BOOT1(PB2)/EVENTOUT", 79 PB10 (io) "PB10/SPI2_SCK/I2S2_CK/I2C2_SCL/USART3_TX/OTG_HS_ULPI_D3/ETH_MII_RX_ER/TIM2_CH3/EVENTOUT", 80 PB11 (io) "PB11/I2C2_SDA/USART3_RX/OTG_HS_ULPI_D4/ETH_RMII_TX_EN/ETH_MII_TX_EN/TIM2_CH4/EVENTOUT", 92 PB12 (io) "PB12/SPI2_NSS/I2S2_WS/I2C2_SMBA/USART3_CK/TIM1_BKIN/CAN2_RX/OTG_HS_ULPI_D5/ETH_RMII_TXD0/ETH_MII_TXD0/OTG_HS_ID/EVENTOUT", 93 PB13 (io) "PB13/SPI2_SCK/I2S2_CK/USART3_CTS/TIM1_CH1N/CAN2_TX/OTG_HS_ULPI_D6/ETH_RMII_TXD1/ETH_MII_TXD1/EVENTOUT/OTG_HS_VBUS", 94 PB14 (io) "PB14/SPI2_MISO/TIM1_CH2N/TIM12_CH1/OTG_HS_DM/USART3_RTS/TIM8_CH2N/I2S2ext_SD/EVENTOUT", 95 PB15 (io) "PB15/SPI2_MOSI/I2S2_SD/TIM1_CH3N/TIM8_CH3N/TIM12_CH2/OTG_HS_DP/EVENTOUT/RTC_REFIN", 96 PD8 (io) "PD8/FSMC_D13/USART3_TX/EVENTOUT", 97 PD9 (io) "PD9/FSMC_D14/USART3_RX/EVENTOUT", 98 PD10 (io) "PD10/FSMC_D15/USART3_CK/EVENTOUT", 99 PD11 (io) "PD11/FSMC_CLE/FSMC_A16/USART3_CTS/EVENTOUT", 100 PD12 (io) "PD12/FSMC_ALE/FSMC_A17/TIM4_CH1/USART3_RTS/EVENTOUT", 101 PD13 (io) "PD13/FSMC_A18/TIM4_CH2/EVENTOUT", 104 PD14 (io) "PD14/FSMC_D0/TIM4_CH3/EVENTOUT", 105 PD15 (io) "PD15/FSMC_D1/TIM4_CH4/EVENTOUT", 115 PC6 (io) "PC6/I2S2_MCK/TIM8_CH1/SDIO_D6/USART6_TX/DCMI_D0/TIM3_CH1/EVENTOUT", 116 PC7 (io) "PC7/I2S3_MCK/TIM8_CH2/SDIO_D7/USART6_RX/DCMI_D1/TIM3_CH2/EVENTOUT", 117 PC8 (io) "PC8/TIM8_CH3/SDIO_D0/TIM3_CH3/USART6_CK/DCMI_D2/EVENTOUT", 118 PC9 (io) "PC9/I2S_CKIN/MCO2/TIM8_CH4/SDIO_D1/I2C3_SDA/DCMI_D3/TIM3_CH4/EVENTOUT", 119 PA8 (io) "PA8/MCO1/USART1_CK/TIM1_CH1/I2C3_SCL/OTG_FS_SOF/EVENTOUT", 120 PA9 (io) "PA9/USART1_TX/TIM1_CH2/I2C3_SMBA/DCMI_D0/EVENTOUT/OTG_FS_VBUS", 121 PA10 (io) "PA10/USART1_RX/TIM1_CH3/OTG_FS_ID/DCMI_D1/EVENTOUT", 122 PA11 (io) "PA11/USART1_CTS/CAN1_RX/TIM1_CH4/OTG_FS_DM/EVENTOUT", 123 PA12 (io) "PA12/USART1_RTS/CAN1_TX/TIM1_ETR/OTG_FS_DP/EVENTOUT", 124 PA13(JTMS-SWDIO) (io) "PA13(JTMS-SWDIO)/JTMS-SWDIO/EVENTOUT", 137 PA14(JTCK-SWCLK) (io) "PA14(JTCK-SWCLK)/JTCK-SWCLK/EVENTOUT", 138 PA15(JTDI) (io) "PA15(JTDI)/JTDI/SPI3_NSS/I2S3_WS/TIM2_CH1_ETR/SPI1_NSS/EVENTOUT", 139 PC10 (io) "PC10/SPI3_SCK/I2S3_CK/UART4_TX/SDIO_D2/DCMI_D8/USART3_TX/EVENTOUT", 140 PC11 (io) "PC11/UART4_RX/SPI3_MISO/SDIO_D3/DCMI_D4/USART3_RX/I2S3ext_SD/EVENTOUT", 141 PC12 (io) "PC12/UART5_TX/SDIO_CK/DCMI_D9/SPI3_MOSI/I2S3_SD/USART3_CK/EVENTOUT", 142 PD0 (io) "PD0/FSMC_D2/CAN1_RX/EVENTOUT", 143 PD1 (io) "PD1/FSMC_D3/CAN1_TX/EVENTOUT", 144 PD2 (io) "PD2/TIM3_ETR/UART5_RX/SDIO_CMD/DCMI_D11/EVENTOUT", 145 PD3 (io) "PD3/FSMC_CLK/USART2_CTS/EVENTOUT", 146 PD4 (io) "PD4/FSMC_NOE/USART2_RTS/EVENTOUT", 147 PD5 (io) "PD5/FSMC_NWE/USART2_TX/EVENTOUT", 150 PD6 (io) "PD6/FSMC_NWAIT/USART2_RX/EVENTOUT", 151 PD7 (io) "PD7/USART2_CK/FSMC_NE1/FSMC_NCE2/EVENTOUT", 161 PB3(JTDO/TRACESWO) (io) "PB3(JTDO/TRACESWO)/JTDO/TRACESWO/SPI3_SCK/I2S3_CK/TIM2_CH2/SPI1_SCK/EVENTOUT", 162 PB4(NJTRST) (io) "PB4(NJTRST)/NJTRST/SPI3_MISO/TIM3_CH1/SPI1_MISO/I2S3ext_SD/EVENTOUT", 163 PB5 (io) "PB5/I2C1_SMBA/CAN2_RX/OTG_HS_ULPI_D7/ETH_PPS_OUT/TIM3_CH2/SPI1_MOSI/SPI3_MOSI/DCMI_D10/I2S3_SD/EVENTOUT", 164 PB6 (io) "PB6/I2C1_SCL/TIM4_CH1/CAN2_TX/DCMI_D5/USART1_TX/EVENTOUT", 165 PB7 (io) "PB7/I2C1_SDA/FSMC_NL/DCMI_VSYNC/USART1_RX/TIM4_CH2/EVENTOUT", 167 PB8 (io) "PB8/TIM4_CH3/SDIO_D4/TIM10_CH1/DCMI_D6/ETH_MII_TXD3/I2C1_SCL/CAN1_RX/EVENTOUT", 168 PB9 (io) "PB9/SPI2_NSS/I2S2_WS/TIM4_CH4/TIM11_CH1/SDIO_D5/DCMI_D7/I2C1_SDA/CAN1_TX/EVENTOUT"
part B pins: 1 PE2 (io) "PE2/TRACECLK/FSMC_A23/ETH_MII_TXD3/EVENTOUT", 2 PE3 (io) "PE3/TRACED0/FSMC_A19/EVENTOUT", 3 PE4 (io) "PE4/TRACED1/FSMC_A20/DCMI_D4/EVENTOUT", 4 PE5 (io) "PE5/TRACED2/FSMC_A21/TIM9_CH1/DCMI_D6/EVENTOUT", 5 PE6 (io) "PE6/TRACED3/FSMC_A22/TIM9_CH2/DCMI_D7/EVENTOUT", 7 PI8 (io) "PI8/EVENTOUT/RTC_TAMP1,RTC_TAMP2,RTC_TS", 11 PI9 (io) "PI9/CAN1_RX/EVENTOUT", 12 PI10 (io) "PI10/ETH_MII_RX_ER/EVENTOUT", 13 PI11 (io) "PI11/OTG_HS_ULPI_DIR/EVENTOUT", 16 PF0 (io) "PF0/FSMC_A0/I2C2_SDA/EVENTOUT", 17 PF1 (io) "PF1/FSMC_A1/I2C2_SCL/EVENTOUT", 18 PF2 (io) "PF2/FSMC_A2/I2C2_SMBA/EVENTOUT", 19 PF3 (io) "PF3/FSMC_A3/EVENTOUT/ADC3_IN9", 20 PF4 (io) "PF4/FSMC_A4/EVENTOUT/ADC3_IN14", 21 PF5 (io) "PF5/FSMC_A5/EVENTOUT/ADC3_IN15", 24 PF6 (io) "PF6/TIM10_CH1/FSMC_NIORD/EVENTOUT/ADC3_IN4", 25 PF7 (io) "PF7/TIM11_CH1/FSMC_NREG/EVENTOUT/ADC3_IN5", 26 PF8 (io) "PF8/TIM13_CH1/FSMC_NIOWR/EVENTOUT/ADC3_IN6", 27 PF9 (io) "PF9/TIM14_CH1/FSMC_CD/EVENTOUT/ADC3_IN7", 28 PF10 (io) "PF10/FSMC_INTR/EVENTOUT/ADC3_IN8", 29 PH0-OSC_IN(PH0) (io) "PH0-OSC_IN(PH0)/EVENTOUT/OSC_IN", 30 PH1-OSC_OUT(PH1) (io) "PH1-OSC_OUT(PH1)/EVENTOUT/OSC_OUT", 31 NRST (io), 43 PH2 (io) "PH2/ETH_MII_CRS/EVENTOUT", 44 PH3 (io) "PH3/ETH_MII_COL/EVENTOUT", 45 PH4 (io) "PH4/I2C2_SCL/OTG_HS_ULPI_NXT/EVENTOUT", 46 PH5 (io) "PH5/I2C2_SDA/EVENTOUT", 48 BYPASS_REG (in), 59 PF11 (io) "PF11/DCMI_D12/EVENTOUT", 60 PF12 (io) "PF12/FSMC_A6/EVENTOUT", 63 PF13 (io) "PF13/FSMC_A7/EVENTOUT", 64 PF14 (io) "PF14/FSMC_A8/EVENTOUT", 65 PF15 (io) "PF15/FSMC_A9/EVENTOUT", 66 PG0 (io) "PG0/FSMC_A10/EVENTOUT", 67 PG1 (io) "PG1/FSMC_A11/EVENTOUT", 68 PE7 (io) "PE7/FSMC_D4/TIM1_ETR/EVENTOUT", 69 PE8 (io) "PE8/FSMC_D5/TIM1_CH1N/EVENTOUT", 70 PE9 (io) "PE9/FSMC_D6/TIM1_CH1/EVENTOUT", 73 PE10 (io) "PE10/FSMC_D7/TIM1_CH2N/EVENTOUT", 74 PE11 (io) "PE11/FSMC_D8/TIM1_CH2/EVENTOUT", 75 PE12 (io) "PE12/FSMC_D9/TIM1_CH3N/EVENTOUT", 76 PE13 (io) "PE13/FSMC_D10/TIM1_CH3/EVENTOUT", 77 PE14 (io) "PE14/FSMC_D11/TIM1_CH4/EVENTOUT", 78 PE15 (io) "PE15/FSMC_D12/TIM1_BKIN/EVENTOUT", 81 VCAP_1 (power), 83 PH6 (io) "PH6/I2C2_SMBA/TIM12_CH1/ETH_MII_RXD2/EVENTOUT", 84 PH7 (io) "PH7/I2C3_SCL/ETH_MII_RXD3/EVENTOUT", 85 PH8 (io) "PH8/I2C3_SDA/DCMI_HSYNC/EVENTOUT", 86 PH9 (io) "PH9/I2C3_SMBA/TIM12_CH2/DCMI_D0/EVENTOUT", 87 PH10 (io) "PH10/TIM5_CH1/DCMI_D1/EVENTOUT", 88 PH11 (io) "PH11/TIM5_CH2/DCMI_D2/EVENTOUT", 89 PH12 (io) "PH12/TIM5_CH3/DCMI_D3/EVENTOUT", 106 PG2 (io) "PG2/FSMC_A12/EVENTOUT", 107 PG3 (io) "PG3/FSMC_A13/EVENTOUT", 108 PG4 (io) "PG4/FSMC_A14/EVENTOUT", 109 PG5 (io) "PG5/FSMC_A15/EVENTOUT", 110 PG6 (io) "PG6/FSMC_INT2/EVENTOUT", 111 PG7 (io) "PG7/FSMC_INT3/USART6_CK/EVENTOUT", 112 PG8 (io) "PG8/USART6_RTS/ETH_PPS_OUT/EVENTOUT", 125 VCAP_2 (power), 128 PH13 (io) "PH13/TIM8_CH1N/CAN1_TX/EVENTOUT", 129 PH14 (io) "PH14/TIM8_CH2N/DCMI_D4/EVENTOUT", 130 PH15 (io) "PH15/TIM8_CH3N/DCMI_D11/EVENTOUT", 131 PI0 (io) "PI0/TIM5_CH4/SPI2_NSS/I2S2_WS/DCMI_D13/EVENTOUT", 132 PI1 (io) "PI1/SPI2_SCK/I2S2_CK/DCMI_D8/EVENTOUT", 133 PI2 (io) "PI2/TIM8_CH4/SPI2_MISO/DCMI_D9/I2S2ext_SD/EVENTOUT", 134 PI3 (io) "PI3/TIM8_ETR/SPI2_MOSI/I2S2_SD/DCMI_D10/EVENTOUT", 152 PG9 (io) "PG9/USART6_RX/FSMC_NE2/FSMC_NCE3/EVENTOUT", 153 PG10 (io) "PG10/FSMC_NCE4_1/FSMC_NE3/EVENTOUT", 154 PG11 (io) "PG11/FSMC_NCE4_2/ETH_MII_TX_EN/ETH_RMII_TX_EN/EVENTOUT", 155 PG12 (io) "PG12/FSMC_NE4/USART6_RTS/EVENTOUT", 156 PG13 (io) "PG13/FSMC_A24/USART6_CTS/ETH_MII_TXD0/ETH_RMII_TXD0/EVENTOUT", 157 PG14 (io) "PG14/FSMC_A25/USART6_TX/ETH_MII_TXD1/ETH_RMII_TXD1/EVENTOUT", 160 PG15 (io) "PG15/USART6_CTS/DCMI_D13/EVENTOUT", 166 BOOT0 (in) "BOOT0/VPP", 169 PE0 (io) "PE0/TIM4_ETR/FSMC_NBL0/DCMI_D2/EVENTOUT", 170 PE1 (io) "PE1/FSMC_NBL1/DCMI_D3/EVENTOUT", 171 PDR_ON (in), 173 PI4 (io) "PI4/TIM8_BKIN/DCMI_D5/EVENTOUT", 174 PI5 (io) "PI5/TIM8_CH1/DCMI_VSYNC/EVENTOUT", 175 PI6 (io) "PI6/TIM8_CH2/DCMI_D6/EVENTOUT", 176 PI7 (io) "PI7/TIM8_CH3/DCMI_D7/EVENTOUT"
part C pins: 6 VBAT (power), 14 VSS (power), 15 VDD (power), 22 VSS (power), 23 VDD (power), 36 VDD (power), 37 VSSA (power), 38 VREF+ (power), 39 VDDA (power), 49 VDD (power), 61 VSS (power), 62 VDD (power), 71 VSS (power), 72 VDD (power), 82 VDD (power), 90 VSS (power), 91 VDD (power), 102 VSS (power), 103 VDD (power), 113 VSS (power), 114 VDD (power), 126 VSS (power), 127 VDD (power), 135 VSS (power), 136 VDD (power), 148 VSS (power), 149 VDD (power), 158 VSS (power), 159 VDD (power), 172 VDD (power)

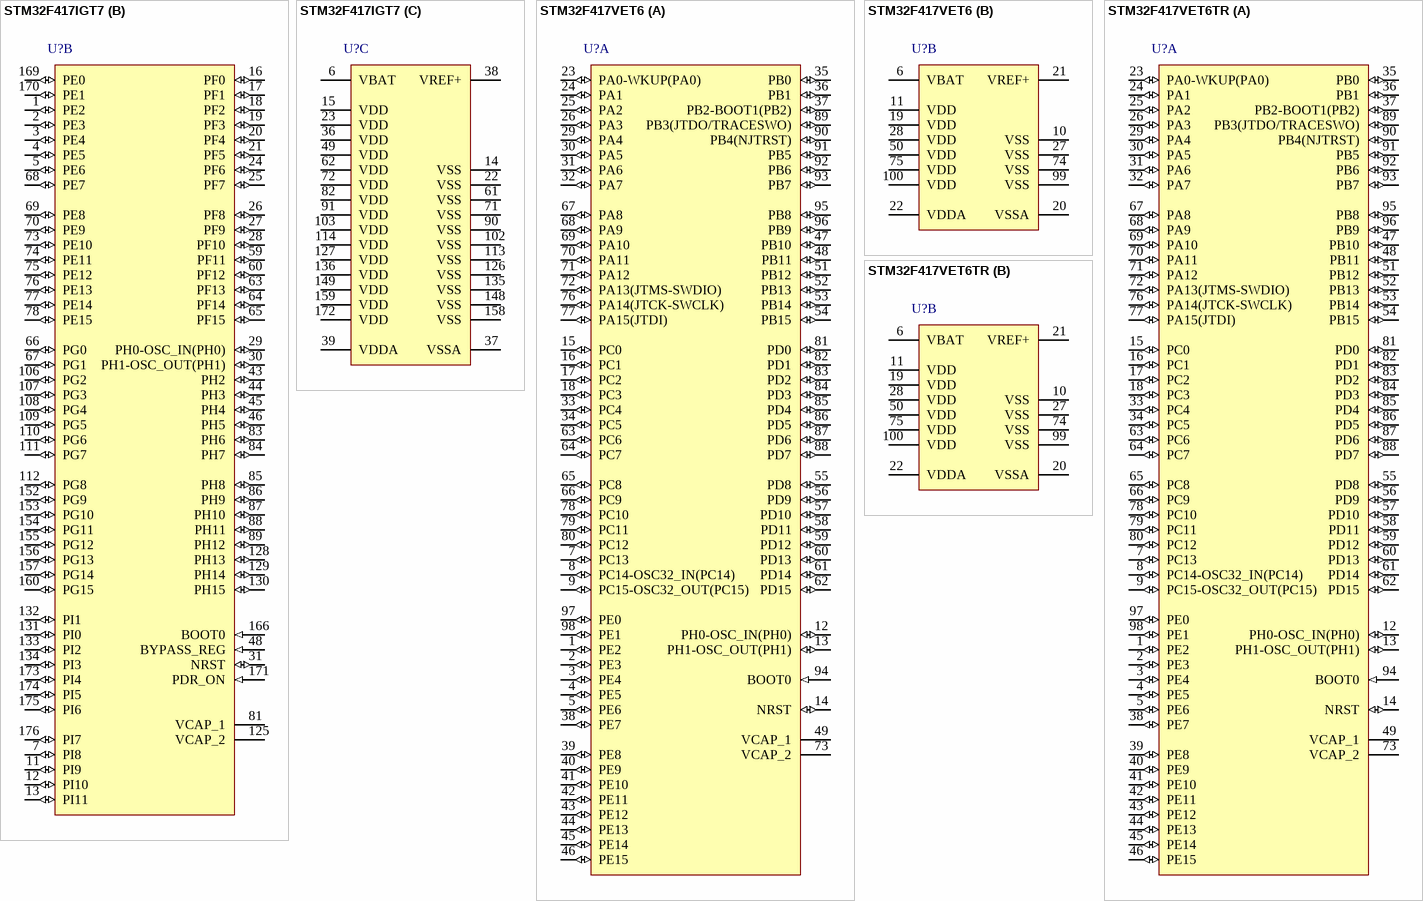
[diagram p16: symbols STM32F417IGT7 to STM32F417VET6TR]

## STM32F417IGT7
designator U?
ARM Cortex-M4 32-bit MCU+FPU, 210 DMIPS, 1024 kB Flash, 192 kB Internal RAM, 140 I/Os, 176-pin LQFP, -40 to 105 degC, Tray; Manufacturer: STMicroelectronics; PartNumber: STM32F417IGT7; D/A Converter: 2x12-bit; FLASH Size (Prog) (kB): 1024; I/Os (High Current): 140; Internal RAM Size (kB): 192; Operating Frequency(F) (Processor speed) (MHz): 168; Supply Voltage(Vcc) max (V): 3.6; Supply Voltage(Vcc) min (V): 1.8; DatasheetVersion: Rev. 4; PackageVersion: Rev. 4, 06/2013; PackageReference: LQFP176; PackageDescription: 176-Pin Low Profile Quad Flat Package, 24 x 24 mm Body, 0.5 mm Pitch; Supplier 1: Digi-Key; Supplier Part Number 1: STM32F417IGT7-ND; Supplier 2: Farnell; Supplier Part Number 2: 2333306; Supplier 3: Newark; Supplier Part Number 3: 99W9921; Supplier 4: Newark; Supplier Part Number 4: 94T6495; Supplier 5: Mouser; Supplier Part Number 5: 511-STM32F417IGT7; Core: ARM Cortex-M4; Packing: Tray; Mounting Technology: Surface Mount; ComponentLink1Description: Manufacturer URL; ComponentLink1URL: http://www.st.com/web/en/home.html; ComponentLink2Description: Datasheet; ComponentLink2URL: http://www.st.com/st-web-ui/static/active/en/resource/technical/document/datasheet/DM00035129.pdf; ComponentLink3Description: Package Specification; ComponentLink3URL: http://www.st.com/st-web-ui/static/active/en/resource/technical/document/datasheet/DM00035129.pdf
footprint STM-LQFP176_N (Thin QFP, 176-Leads, Body 24x24mm, Pitch 0.5mm, IPC Medium Density)
footprint STM-LQFP176_L (Thin QFP, 176-Leads, Body 24x24mm, Pitch 0.5mm, IPC High Density)
footprint STM-LQFP176_M (Thin QFP, 176-Leads, Body 24x24mm, Pitch 0.5mm, IPC Low Density)
part A pins: 8 PC13 (io) "PC13/EVENTOUT/RTC_OUT,RTC_TAMP1,RTC_TS", 9 PC14-OSC32_IN(PC14) (io) "PC14-OSC32_IN(PC14)/EVENTOUT/OSC32_IN", 10 PC15-OSC32_OUT(PC15) (io) "PC15-OSC32_OUT(PC15)/EVENTOUT/OSC32_OUT", 32 PC0 (io) "PC0/OTG_HS_ULPI_STP/EVENTOUT/ADC123_IN10", 33 PC1 (io) "PC1/ETH_MDC/EVENTOUT/ADC123_IN11", 34 PC2 (io) "PC2/SPI2_MISO/OTG_HS_ULPI_DIR/ETH_MII_TXD2/I2S2ext_SD/EVENTOUT/ADC123_IN12", 35 PC3 (io) "PC3/SPI2_MOSI/I2S2_SD/OTG_HS_ULPI_NXT/ETH_MII_TX_CLK/EVENTOUT/ADC123_IN13", 40 PA0-WKUP(PA0) (io) "PA0-WKUP(PA0)/USART2_CTS/UART4_TX/ETH_MII_CRS/TIM2_CH1_ETR/TIM5_CH1/TIM8_ETR/EVENTOUT/ADC123_IN0/WKUP", 41 PA1 (io) "PA1/USART2_RTS/UART4_RX/ETH_RMII_REF_CLK/ETH_MII_RX_CLK/TIM5_CH2/TIM2_CH2/EVENTOUT/ADC123_IN1", 42 PA2 (io) "PA2/USART2_TX/TIM5_CH3/TIM9_CH1/TIM2_CH3/ETH_MDIO/EVENTOUT/ADC123_IN2", 47 PA3 (io) "PA3/USART2_RX/TIM5_CH4/TIM9_CH2/TIM2_CH4/OTG_HS_ULPI_D0/ETH_MII_COL/EVENTOUT/ADC123_IN3", 50 PA4 (io) "PA4/SPI1_NSS/SPI3_NSS/USART2_CK/DCMI_HSYNC/OTG_HS_SOF/I2S3_WS/EVENTOUT/ADC12_IN4/DAC_OUT1", 51 PA5 (io) "PA5/SPI1_SCK/OTG_HS_ULPI_CK/TIM2_CH1_ETR/TIM8_CH1N/EVENTOUT/ADC12_IN5/DAC_OUT2", 52 PA6 (io) "PA6/SPI1_MISO/TIM8_BKIN/TIM13_CH1/DCMI_PIXCLK/TIM3_CH1/TIM1_BKIN/EVENTOUT/ADC12_IN6", 53 PA7 (io) "PA7/SPI1_MOSI/TIM8_CH1N/TIM14_CH1/TIM3_CH2/ETH_MII_RX_DV/TIM1_CH1N/ETH_RMII_CRS_DV/EVENTOUT/ADC12_IN7", 54 PC4 (io) "PC4/ETH_RMII_RX_D0/ETH_MII_RX_D0/EVENTOUT/ADC12_IN14", 55 PC5 (io) "PC5/ETH_RMII_RX_D1/ETH_MII_RX_D1/EVENTOUT/ADC12_IN15", 56 PB0 (io) "PB0/TIM3_CH3/TIM8_CH2N/OTG_HS_ULPI_D1/ETH_MII_RXD2/TIM1_CH2N/EVENTOUT/ADC12_IN8", 57 PB1 (io) "PB1/TIM3_CH4/TIM8_CH3N/OTG_HS_ULPI_D2/ETH_MII_RXD3/TIM1_CH3N/EVENTOUT/ADC12_IN9", 58 PB2-BOOT1(PB2) (io) "PB2-BOOT1(PB2)/EVENTOUT", 79 PB10 (io) "PB10/SPI2_SCK/I2S2_CK/I2C2_SCL/USART3_TX/OTG_HS_ULPI_D3/ETH_MII_RX_ER/TIM2_CH3/EVENTOUT", 80 PB11 (io) "PB11/I2C2_SDA/USART3_RX/OTG_HS_ULPI_D4/ETH_RMII_TX_EN/ETH_MII_TX_EN/TIM2_CH4/EVENTOUT", 92 PB12 (io) "PB12/SPI2_NSS/I2S2_WS/I2C2_SMBA/USART3_CK/TIM1_BKIN/CAN2_RX/OTG_HS_ULPI_D5/ETH_RMII_TXD0/ETH_MII_TXD0/OTG_HS_ID/EVENTOUT", 93 PB13 (io) "PB13/SPI2_SCK/I2S2_CK/USART3_CTS/TIM1_CH1N/CAN2_TX/OTG_HS_ULPI_D6/ETH_RMII_TXD1/ETH_MII_TXD1/EVENTOUT/OTG_HS_VBUS", 94 PB14 (io) "PB14/SPI2_MISO/TIM1_CH2N/TIM12_CH1/OTG_HS_DM/USART3_RTS/TIM8_CH2N/I2S2ext_SD/EVENTOUT", 95 PB15 (io) "PB15/SPI2_MOSI/I2S2_SD/TIM1_CH3N/TIM8_CH3N/TIM12_CH2/OTG_HS_DP/EVENTOUT/RTC_REFIN", 96 PD8 (io) "PD8/FSMC_D13/USART3_TX/EVENTOUT", 97 PD9 (io) "PD9/FSMC_D14/USART3_RX/EVENTOUT", 98 PD10 (io) "PD10/FSMC_D15/USART3_CK/EVENTOUT", 99 PD11 (io) "PD11/FSMC_CLE/FSMC_A16/USART3_CTS/EVENTOUT", 100 PD12 (io) "PD12/FSMC_ALE/FSMC_A17/TIM4_CH1/USART3_RTS/EVENTOUT", 101 PD13 (io) "PD13/FSMC_A18/TIM4_CH2/EVENTOUT", 104 PD14 (io) "PD14/FSMC_D0/TIM4_CH3/EVENTOUT", 105 PD15 (io) "PD15/FSMC_D1/TIM4_CH4/EVENTOUT", 115 PC6 (io) "PC6/I2S2_MCK/TIM8_CH1/SDIO_D6/USART6_TX/DCMI_D0/TIM3_CH1/EVENTOUT", 116 PC7 (io) "PC7/I2S3_MCK/TIM8_CH2/SDIO_D7/USART6_RX/DCMI_D1/TIM3_CH2/EVENTOUT", 117 PC8 (io) "PC8/TIM8_CH3/SDIO_D0/TIM3_CH3/USART6_CK/DCMI_D2/EVENTOUT", 118 PC9 (io) "PC9/I2S_CKIN/MCO2/TIM8_CH4/SDIO_D1/I2C3_SDA/DCMI_D3/TIM3_CH4/EVENTOUT", 119 PA8 (io) "PA8/MCO1/USART1_CK/TIM1_CH1/I2C3_SCL/OTG_FS_SOF/EVENTOUT", 120 PA9 (io) "PA9/USART1_TX/TIM1_CH2/I2C3_SMBA/DCMI_D0/EVENTOUT/OTG_FS_VBUS", 121 PA10 (io) "PA10/USART1_RX/TIM1_CH3/OTG_FS_ID/DCMI_D1/EVENTOUT", 122 PA11 (io) "PA11/USART1_CTS/CAN1_RX/TIM1_CH4/OTG_FS_DM/EVENTOUT", 123 PA12 (io) "PA12/USART1_RTS/CAN1_TX/TIM1_ETR/OTG_FS_DP/EVENTOUT", 124 PA13(JTMS-SWDIO) (io) "PA13(JTMS-SWDIO)/JTMS-SWDIO/EVENTOUT", 137 PA14(JTCK-SWCLK) (io) "PA14(JTCK-SWCLK)/JTCK-SWCLK/EVENTOUT", 138 PA15(JTDI) (io) "PA15(JTDI)/JTDI/SPI3_NSS/I2S3_WS/TIM2_CH1_ETR/SPI1_NSS/EVENTOUT", 139 PC10 (io) "PC10/SPI3_SCK/I2S3_CK/UART4_TX/SDIO_D2/DCMI_D8/USART3_TX/EVENTOUT", 140 PC11 (io) "PC11/UART4_RX/SPI3_MISO/SDIO_D3/DCMI_D4/USART3_RX/I2S3ext_SD/EVENTOUT", 141 PC12 (io) "PC12/UART5_TX/SDIO_CK/DCMI_D9/SPI3_MOSI/I2S3_SD/USART3_CK/EVENTOUT", 142 PD0 (io) "PD0/FSMC_D2/CAN1_RX/EVENTOUT", 143 PD1 (io) "PD1/FSMC_D3/CAN1_TX/EVENTOUT", 144 PD2 (io) "PD2/TIM3_ETR/UART5_RX/SDIO_CMD/DCMI_D11/EVENTOUT", 145 PD3 (io) "PD3/FSMC_CLK/USART2_CTS/EVENTOUT", 146 PD4 (io) "PD4/FSMC_NOE/USART2_RTS/EVENTOUT", 147 PD5 (io) "PD5/FSMC_NWE/USART2_TX/EVENTOUT", 150 PD6 (io) "PD6/FSMC_NWAIT/USART2_RX/EVENTOUT", 151 PD7 (io) "PD7/USART2_CK/FSMC_NE1/FSMC_NCE2/EVENTOUT", 161 PB3(JTDO/TRACESWO) (io) "PB3(JTDO/TRACESWO)/JTDO/TRACESWO/SPI3_SCK/I2S3_CK/TIM2_CH2/SPI1_SCK/EVENTOUT", 162 PB4(NJTRST) (io) "PB4(NJTRST)/NJTRST/SPI3_MISO/TIM3_CH1/SPI1_MISO/I2S3ext_SD/EVENTOUT", 163 PB5 (io) "PB5/I2C1_SMBA/CAN2_RX/OTG_HS_ULPI_D7/ETH_PPS_OUT/TIM3_CH2/SPI1_MOSI/SPI3_MOSI/DCMI_D10/I2S3_SD/EVENTOUT", 164 PB6 (io) "PB6/I2C1_SCL/TIM4_CH1/CAN2_TX/DCMI_D5/USART1_TX/EVENTOUT", 165 PB7 (io) "PB7/I2C1_SDA/FSMC_NL/DCMI_VSYNC/USART1_RX/TIM4_CH2/EVENTOUT", 167 PB8 (io) "PB8/TIM4_CH3/SDIO_D4/TIM10_CH1/DCMI_D6/ETH_MII_TXD3/I2C1_SCL/CAN1_RX/EVENTOUT", 168 PB9 (io) "PB9/SPI2_NSS/I2S2_WS/TIM4_CH4/TIM11_CH1/SDIO_D5/DCMI_D7/I2C1_SDA/CAN1_TX/EVENTOUT"
part B pins: 1 PE2 (io) "PE2/TRACECLK/FSMC_A23/ETH_MII_TXD3/EVENTOUT", 2 PE3 (io) "PE3/TRACED0/FSMC_A19/EVENTOUT", 3 PE4 (io) "PE4/TRACED1/FSMC_A20/DCMI_D4/EVENTOUT", 4 PE5 (io) "PE5/TRACED2/FSMC_A21/TIM9_CH1/DCMI_D6/EVENTOUT", 5 PE6 (io) "PE6/TRACED3/FSMC_A22/TIM9_CH2/DCMI_D7/EVENTOUT", 7 PI8 (io) "PI8/EVENTOUT/RTC_TAMP1,RTC_TAMP2,RTC_TS", 11 PI9 (io) "PI9/CAN1_RX/EVENTOUT", 12 PI10 (io) "PI10/ETH_MII_RX_ER/EVENTOUT", 13 PI11 (io) "PI11/OTG_HS_ULPI_DIR/EVENTOUT", 16 PF0 (io) "PF0/FSMC_A0/I2C2_SDA/EVENTOUT", 17 PF1 (io) "PF1/FSMC_A1/I2C2_SCL/EVENTOUT", 18 PF2 (io) "PF2/FSMC_A2/I2C2_SMBA/EVENTOUT", 19 PF3 (io) "PF3/FSMC_A3/EVENTOUT/ADC3_IN9", 20 PF4 (io) "PF4/FSMC_A4/EVENTOUT/ADC3_IN14", 21 PF5 (io) "PF5/FSMC_A5/EVENTOUT/ADC3_IN15", 24 PF6 (io) "PF6/TIM10_CH1/FSMC_NIORD/EVENTOUT/ADC3_IN4", 25 PF7 (io) "PF7/TIM11_CH1/FSMC_NREG/EVENTOUT/ADC3_IN5", 26 PF8 (io) "PF8/TIM13_CH1/FSMC_NIOWR/EVENTOUT/ADC3_IN6", 27 PF9 (io) "PF9/TIM14_CH1/FSMC_CD/EVENTOUT/ADC3_IN7", 28 PF10 (io) "PF10/FSMC_INTR/EVENTOUT/ADC3_IN8", 29 PH0-OSC_IN(PH0) (io) "PH0-OSC_IN(PH0)/EVENTOUT/OSC_IN", 30 PH1-OSC_OUT(PH1) (io) "PH1-OSC_OUT(PH1)/EVENTOUT/OSC_OUT", 31 NRST (io), 43 PH2 (io) "PH2/ETH_MII_CRS/EVENTOUT", 44 PH3 (io) "PH3/ETH_MII_COL/EVENTOUT", 45 PH4 (io) "PH4/I2C2_SCL/OTG_HS_ULPI_NXT/EVENTOUT", 46 PH5 (io) "PH5/I2C2_SDA/EVENTOUT", 48 BYPASS_REG (in), 59 PF11 (io) "PF11/DCMI_D12/EVENTOUT", 60 PF12 (io) "PF12/FSMC_A6/EVENTOUT", 63 PF13 (io) "PF13/FSMC_A7/EVENTOUT", 64 PF14 (io) "PF14/FSMC_A8/EVENTOUT", 65 PF15 (io) "PF15/FSMC_A9/EVENTOUT", 66 PG0 (io) "PG0/FSMC_A10/EVENTOUT", 67 PG1 (io) "PG1/FSMC_A11/EVENTOUT", 68 PE7 (io) "PE7/FSMC_D4/TIM1_ETR/EVENTOUT", 69 PE8 (io) "PE8/FSMC_D5/TIM1_CH1N/EVENTOUT", 70 PE9 (io) "PE9/FSMC_D6/TIM1_CH1/EVENTOUT", 73 PE10 (io) "PE10/FSMC_D7/TIM1_CH2N/EVENTOUT", 74 PE11 (io) "PE11/FSMC_D8/TIM1_CH2/EVENTOUT", 75 PE12 (io) "PE12/FSMC_D9/TIM1_CH3N/EVENTOUT", 76 PE13 (io) "PE13/FSMC_D10/TIM1_CH3/EVENTOUT", 77 PE14 (io) "PE14/FSMC_D11/TIM1_CH4/EVENTOUT", 78 PE15 (io) "PE15/FSMC_D12/TIM1_BKIN/EVENTOUT", 81 VCAP_1 (power), 83 PH6 (io) "PH6/I2C2_SMBA/TIM12_CH1/ETH_MII_RXD2/EVENTOUT", 84 PH7 (io) "PH7/I2C3_SCL/ETH_MII_RXD3/EVENTOUT", 85 PH8 (io) "PH8/I2C3_SDA/DCMI_HSYNC/EVENTOUT", 86 PH9 (io) "PH9/I2C3_SMBA/TIM12_CH2/DCMI_D0/EVENTOUT", 87 PH10 (io) "PH10/TIM5_CH1/DCMI_D1/EVENTOUT", 88 PH11 (io) "PH11/TIM5_CH2/DCMI_D2/EVENTOUT", 89 PH12 (io) "PH12/TIM5_CH3/DCMI_D3/EVENTOUT", 106 PG2 (io) "PG2/FSMC_A12/EVENTOUT", 107 PG3 (io) "PG3/FSMC_A13/EVENTOUT", 108 PG4 (io) "PG4/FSMC_A14/EVENTOUT", 109 PG5 (io) "PG5/FSMC_A15/EVENTOUT", 110 PG6 (io) "PG6/FSMC_INT2/EVENTOUT", 111 PG7 (io) "PG7/FSMC_INT3/USART6_CK/EVENTOUT", 112 PG8 (io) "PG8/USART6_RTS/ETH_PPS_OUT/EVENTOUT", 125 VCAP_2 (power), 128 PH13 (io) "PH13/TIM8_CH1N/CAN1_TX/EVENTOUT", 129 PH14 (io) "PH14/TIM8_CH2N/DCMI_D4/EVENTOUT", 130 PH15 (io) "PH15/TIM8_CH3N/DCMI_D11/EVENTOUT", 131 PI0 (io) "PI0/TIM5_CH4/SPI2_NSS/I2S2_WS/DCMI_D13/EVENTOUT", 132 PI1 (io) "PI1/SPI2_SCK/I2S2_CK/DCMI_D8/EVENTOUT", 133 PI2 (io) "PI2/TIM8_CH4/SPI2_MISO/DCMI_D9/I2S2ext_SD/EVENTOUT", 134 PI3 (io) "PI3/TIM8_ETR/SPI2_MOSI/I2S2_SD/DCMI_D10/EVENTOUT", 152 PG9 (io) "PG9/USART6_RX/FSMC_NE2/FSMC_NCE3/EVENTOUT", 153 PG10 (io) "PG10/FSMC_NCE4_1/FSMC_NE3/EVENTOUT", 154 PG11 (io) "PG11/FSMC_NCE4_2/ETH_MII_TX_EN/ETH_RMII_TX_EN/EVENTOUT", 155 PG12 (io) "PG12/FSMC_NE4/USART6_RTS/EVENTOUT", 156 PG13 (io) "PG13/FSMC_A24/USART6_CTS/ETH_MII_TXD0/ETH_RMII_TXD0/EVENTOUT", 157 PG14 (io) "PG14/FSMC_A25/USART6_TX/ETH_MII_TXD1/ETH_RMII_TXD1/EVENTOUT", 160 PG15 (io) "PG15/USART6_CTS/DCMI_D13/EVENTOUT", 166 BOOT0 (in) "BOOT0/VPP", 169 PE0 (io) "PE0/TIM4_ETR/FSMC_NBL0/DCMI_D2/EVENTOUT", 170 PE1 (io) "PE1/FSMC_NBL1/DCMI_D3/EVENTOUT", 171 PDR_ON (in), 173 PI4 (io) "PI4/TIM8_BKIN/DCMI_D5/EVENTOUT", 174 PI5 (io) "PI5/TIM8_CH1/DCMI_VSYNC/EVENTOUT", 175 PI6 (io) "PI6/TIM8_CH2/DCMI_D6/EVENTOUT", 176 PI7 (io) "PI7/TIM8_CH3/DCMI_D7/EVENTOUT"
part C pins: 6 VBAT (power), 14 VSS (power), 15 VDD (power), 22 VSS (power), 23 VDD (power), 36 VDD (power), 37 VSSA (power), 38 VREF+ (power), 39 VDDA (power), 49 VDD (power), 61 VSS (power), 62 VDD (power), 71 VSS (power), 72 VDD (power), 82 VDD (power), 90 VSS (power), 91 VDD (power), 102 VSS (power), 103 VDD (power), 113 VSS (power), 114 VDD (power), 126 VSS (power), 127 VDD (power), 135 VSS (power), 136 VDD (power), 148 VSS (power), 149 VDD (power), 158 VSS (power), 159 VDD (power), 172 VDD (power)